# EAGLE library part 06POS-*MM-? (library con-wurth-board-header)
Wurth Elektronik WR-BHD Male Box Headers
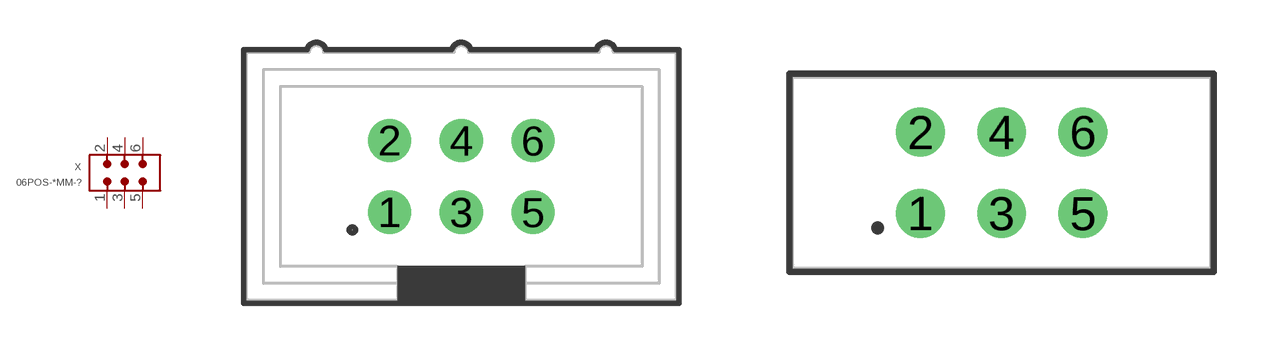
[diagram p0: symbol with the pads of 612006235121; footprints 612006235121, 61200622323]

Designator prefix X

## 06POS-2.54MM-612006235121 (CONTACT-RESISTANCE: 20mOhm; DATASHEET-URL: https://www.we-online.com/redexpert/spec/612006235121?ae; GENDER: Male; IR: 3A; LENGTH: 15.2mm; MOUNT: THT; PACKAGING: Tray; PART-NUMBER: 612006235121; PINS: 6; PITCH: 2.54 mm; TYPE: Straight; VALUE: 612006235121; WORKING-VOLTAGE: 250V(AC))  [612006235121]
1  1  pas
2  2  pas
3  3  pas
4  4  pas
5  5  pas
6  6  pas

## 06POS-2.54MM-61200622323 (CONTACT-RESISTANCE: 20mOhm; DATASHEET-URL: https://www.we-online.com/redexpert/spec/61200622323?ae; GENDER: Transition; IR: 1A; LENGTH: 13.07mm; MOUNT: THT; PACKAGING: Tray; PART-NUMBER: 61200622323; PINS: 6; PITCH: 2.54 mm; TYPE: Straight; VALUE: 61200622323; WORKING-VOLTAGE: 250V(AC))  [61200622323]
Pads as for 612006235121

## 06POS-2.54MM-612006235221 (CONTACT-RESISTANCE: 20mOhm; DATASHEET-URL: https://www.we-online.com/redexpert/spec/612006235221?ae; GENDER: Male; IR: 3A; LENGTH: 15.2mm; MOUNT: THT; PACKAGING: Tray; PART-NUMBER: 612006235221; PINS: 6; PITCH: 2.54 mm; TYPE: Angled; VALUE: 612006235221; WORKING-VOLTAGE: 250V(AC))  [612006235221]
Pads as for 612006235121

## 06POS-2.54MM-61200621721 (CONTACT-RESISTANCE: 20mOhm; DATASHEET-URL: https://www.we-online.com/redexpert/spec/61200621721?ae; GENDER: Male; IR: 3A; LENGTH: 15.28mm; MOUNT: THT; PACKAGING: Tray; PART-NUMBER: 61200621721; PINS: 6; PITCH: 2.54 mm; TYPE: Angled; VALUE: 61200621721; WORKING-VOLTAGE: 250V(AC))  [61200621721]
Pads as for 612006235121

## 06POS-2.54MM-61200621621 (CONTACT-RESISTANCE: 20mOhm; DATASHEET-URL: https://www.we-online.com/redexpert/spec/61200621621?ae; GENDER: Male; IR: 3A; LENGTH: 15.28mm; MOUNT: THT; PACKAGING: Tray; PART-NUMBER: 61200621621; PINS: 6; PITCH: 2.54 mm; TYPE: Straight; VALUE: 61200621621; WORKING-VOLTAGE: 250V(AC))  [61200621621]
Pads as for 612006235121

## Footprint 612006235121 (pad centres in mm)
WR-BHD 2.54 mm Male Box Header High Temperature, 6 Pins
drill 1.02: 1 -2.54,-1.27; 2 -2.54,1.27; 3 0,-1.27; 4 0,1.27; 5 2.54,-1.27; 6 2.54,1.27

## Footprint 61200622323 (pad centres in mm)
WR-BHD 2.54 mm Board to Cable Transition Connector, 6 Pins
drill 1.02: 1 -2.54,-1.27; 2 -2.54,1.27; 3 0,-1.27; 4 0,1.27; 5 2.54,-1.27; 6 2.54,1.27

## Footprint 612006235221 (pad centres in mm)
WR-BHD 2.54 mm Male Angled Box Header High Temperature, 6 Pins
drill 1.02: 1 2.54,8.54; 2 2.54,6; 3 0,8.54; 4 0,6; 5 -2.54,8.54; 6 -2.54,6

## Footprint 61200621721 (pad centres in mm)
WR-BHD 2.54 mm Male Angled Box Header, 6 Pins
drill 1.1: 1 2.54,8.805; 2 2.54,6.265; 3 0,8.805; 4 0,6.265; 5 -2.54,8.805; 6 -2.54,6.265

## Footprint 61200621621 (pad centres in mm)
WR-BHD 2.54 mm Male Box Header, 6 Pins
drill 1.1: 1 -2.54,-1.27; 2 -2.54,1.27; 3 0,-1.27; 4 0,1.27; 5 2.54,-1.27; 6 2.54,1.27